# EAGLE library part DUAL_SLIDE_SWITCH (library ISCTRainingProgram)
SLIDING SWITCH Siemens, distributor Buerklin, 11G766
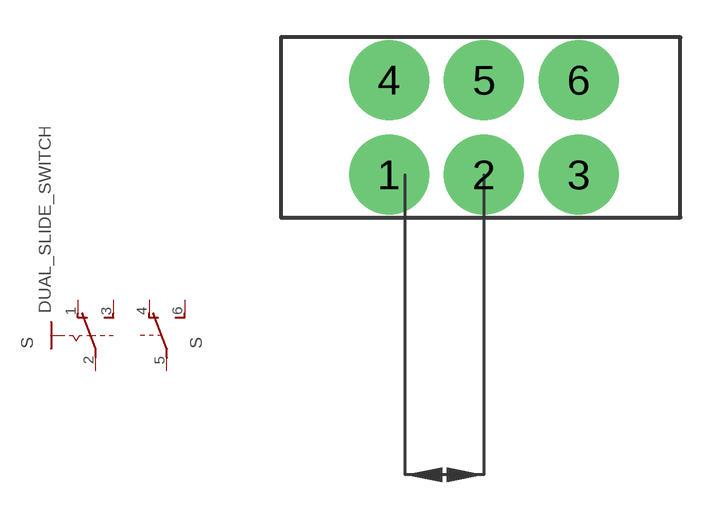
[diagram p3: symbol with the pads of DUAL_SLIDE_SWITCH; footprint DUAL_SLIDE_SWITCH]

Designator prefix S; gates B=U2 A=SIS-

## DUAL_SLIDE_SWITCH  [DUAL_SLIDE_SWITCH]
1  A:O  pas
2  A:P  pas
3  A:S  pas
4  B:O  pas
5  B:P  pas
6  B:S  pas

## Footprint DUAL_SLIDE_SWITCH (pad centres in mm)
SLIDING SWITCH Siemens, distributor Buerklin, 11G766
drill 2.2: 1 -3.81,-1.905; 2 0,-1.905; 3 3.81,-1.905; 4 -3.81,1.905; 5 0,1.905; 6 3.81,1.905